# Altium schematic symbol library LT3086EFE.Schlib: 1 symbol
Pins are listed as number, name and electrical type; pins without a type are passive.

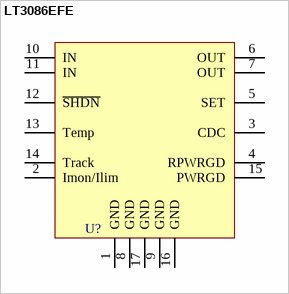
[diagram p0: symbol LT3086EFE]

## LT3086EFE
designator U?
40V, 2.1A Low Dropout Linear Voltage Regulator with Monitoring and Cable Drop Compensation
pins: 1 GND, 2 Imon/Ilim, 3 CDC, 4 RPWRGD, 5 SET, 6 OUT, 7 OUT, 8 GND, 9 GND, 10 IN, 11 IN, 12 ~{SHDN}, 13 Temp, 14 Track, 15 PWRGD, 16 GND, 17 GND